# EAGLE library part FT232H (library ICs)
The FT232H is a single channel USB 2.0 Hi-Speed (480Mb/s) to UART/FIFO IC.
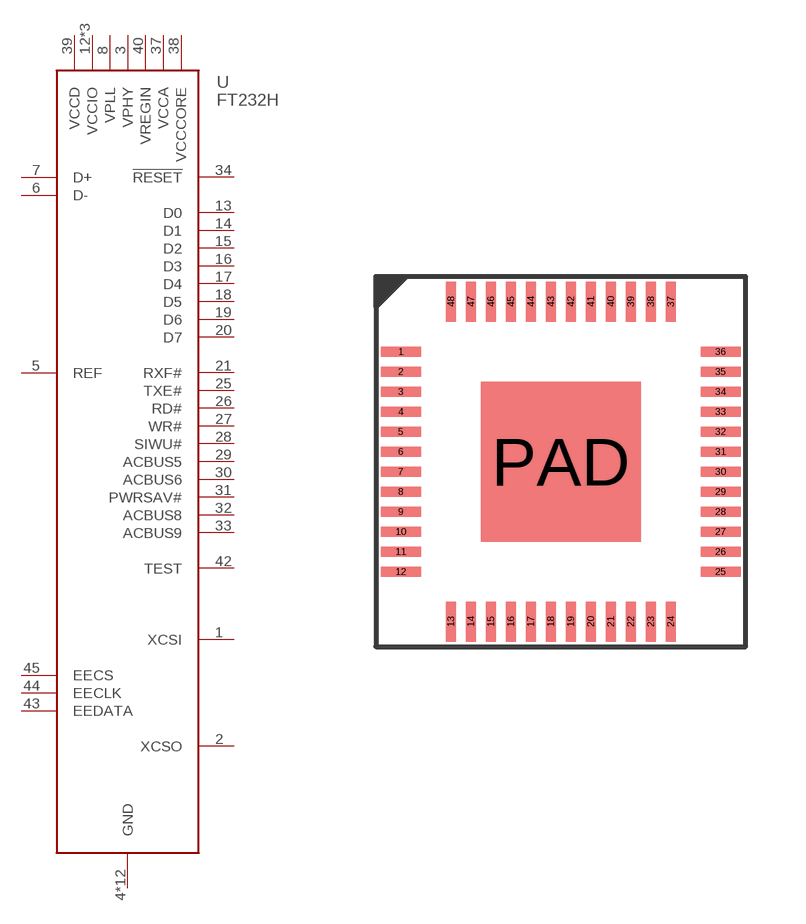
[diagram p41: symbol with the pads of QFN48_8X8; footprint QFN48_8X8]

Designator prefix U

## FT232HQ (FARNELL: 768-1102-1-ND; HEIGHT: 1; PRICE_PER: 3.24; VALUE: FT232H)  [QFN48_8X8]
1  XCSI
2  XCSO
3  VPHY
4  GND
5  REF
6  D-
7  D+
8  VPLL
9  GND
10  GND
11  GND
12  VCCIO
13  D0
14  D1
15  D2
16  D3
17  D4
18  D5
19  D6
20  D7
21  RXF#
22  GND
23  GND
24  VCCIO
25  TXE#
26  RD#
27  WR#
28  SIWU#
29  ACBUS5
30  ACBUS6
31  PWRSAV#
32  ACBUS8
33  ACBUS9
34  !RESET
35  GND
36  GND
37  VCCA
38  VCCCORE
39  VCCD
40  VREGIN
41  GND
42  TEST
43  EEDATA
44  EECLK
45  EECS
46  VCCIO
47  GND
48  GND
PAD  GND

## Footprint QFN48_8X8 (pad centres in mm)
smd 1 x 0.25: 1 -4,2.75; 2 -4,2.25; 3 -4,1.75; 4 -4,1.25; 5 -4,0.75; 6 -4,0.25; 7 -4,-0.25; 8 -4,-0.75; 9 -4,-1.25; 10 -4,-1.75; 11 -4,-2.25; 12 -4,-2.75; 25 4,-2.75; 26 4,-2.25; 27 4,-1.75; 28 4,-1.25; 29 4,-0.75; 30 4,-0.25; 31 4,0.25; 32 4,0.75; 33 4,1.25; 34 4,1.75; 35 4,2.25; 36 4,2.75
smd 0.25 x 1: 13 -2.75,-4; 14 -2.25,-4; 15 -1.75,-4; 16 -1.25,-4; 17 -0.75,-4; 18 -0.25,-4; 19 0.25,-4; 20 0.75,-4; 21 1.25,-4; 22 1.75,-4; 23 2.25,-4; 24 2.75,-4; 37 2.75,4; 38 2.25,4; 39 1.75,4; 40 1.25,4; 41 0.75,4; 42 0.25,4; 43 -0.25,4; 44 -0.75,4; 45 -1.25,4; 46 -1.75,4; 47 -2.25,4; 48 -2.75,4
smd 4 x 4: PAD 0,0